# EAGLE library part NEUTRIK_NRJ6HF (library neutrik_jacks)
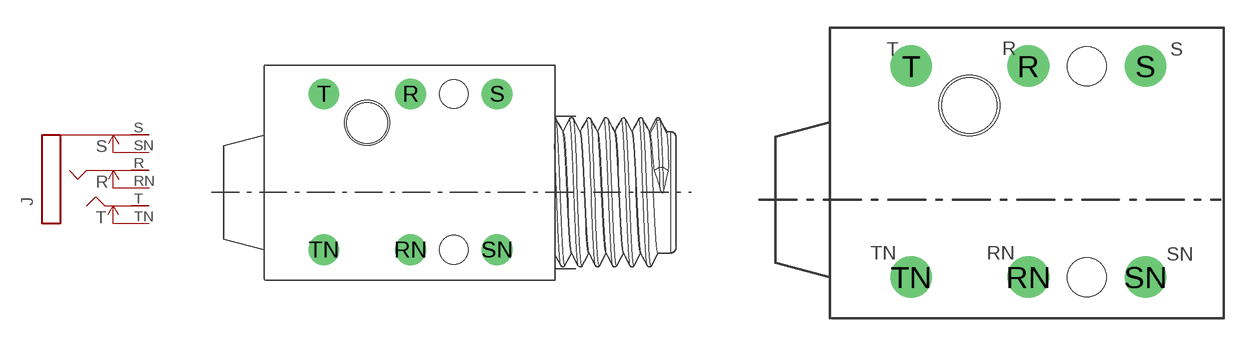
[diagram p0: symbol with the pads of NRJ6HF; footprints NRJ6HF, NRJ6HF_NO_SCREW]

Designator prefix J

## NEUTRIK_NRJ6HFSTD  [NRJ6HF]
R  R  pas
RN  RN  pas
S  S  pas
SN  SN  pas
T  T  pas
TN  TN  pas

## NEUTRIK_NRJ6HFNO_SCREW  [NRJ6HF_NO_SCREW]
Pads as for NRJ6HF

## NEUTRIK_NRJ6HFNO_SCREW,NO_HOLE  [NRJ6HF_NO_SCREW_NO-HOLE]
Pads as for NRJ6HF

## NEUTRIK_NRJ6HFNO_SCREW,NO_HOLES  [NRJ6HF_NO_SCREW_NO-HOLES]
Pads as for NRJ6HF

## Footprint NRJ6HF (pad centres in mm)
Neutrik Slim Jack NRJ6HF
drill 1.5: R 0,6.35; RN 0,-5.08; S 6.35,6.35; SN 6.35,-5.08; T -6.35,6.35; TN -6.35,-5.08
hole 2.1 at 3.175,6.35
hole 2.1 at 3.175,-5.08
hole 3.3 at -3.2,4.219

## Footprint NRJ6HF_NO_SCREW (pad centres in mm)
Neutrik Slim Jack NRJ6HF (package without screw)
drill 1.5: R 1.27,6.35; RN 1.27,-5.08; S 7.62,6.35; SN 7.62,-5.08; T -5.08,6.35; TN -5.08,-5.08
hole 2.1 at 4.445,6.35
hole 2.1 at 4.445,-5.08
hole 3.3 at -1.93,4.219

## Footprint NRJ6HF_NO_SCREW_NO-HOLE (pad centres in mm)
drill 1.5: R 1.27,6.35; RN 1.27,-5.08; S 7.62,6.35; SN 7.62,-5.08; T -5.08,6.35; TN -5.08,-5.08
hole 2.1 at 4.445,6.35
hole 2.1 at 4.445,-5.08

## Footprint NRJ6HF_NO_SCREW_NO-HOLES (pad centres in mm)
drill 1.5 pad 2.54: R 1.27,6.35; RN 1.27,-5.08; S 7.62,6.35; SN 7.62,-5.08; T -5.08,6.35; TN -5.08,-5.08